# Altium footprint library 野火_F103霸道_PCB封装_V2_0.PcbLib: 62 footprints (part 3 of 4)
Each footprint in its own frame and in the unit in brackets; x right, y up, seen from the top. Pads: shape width x height; smd on the part's side, far side on the other; paste and mask are expansions set on the pad; w line width, h text height; cw(c..) or ccw(c..) is an arc to the next point about the centre after c.
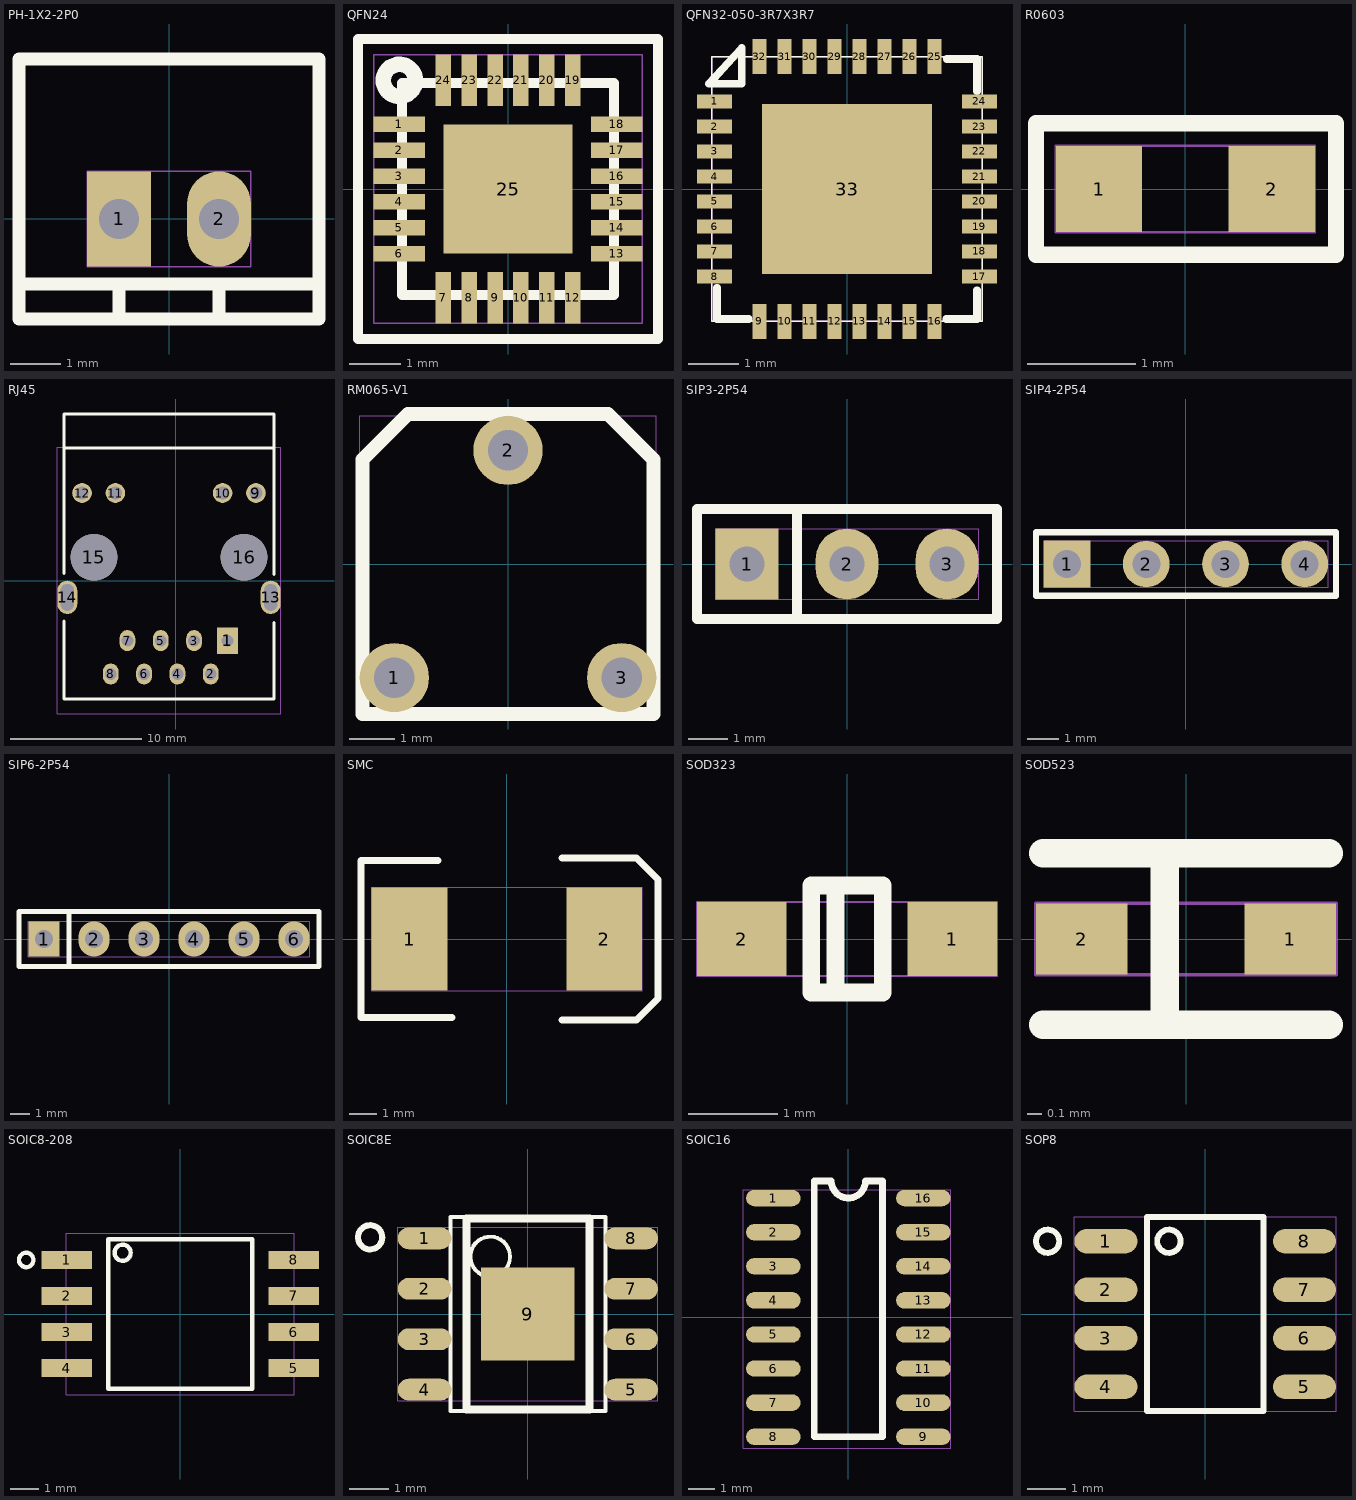
[diagram p2: the footprints below, top view; thin cyan lines are the x and y axes]

## PH-1X2-2P0 [mil]
pads (2):
  rect 50x75 hole 31.5 mask+2.5: 1(-39.37,0)
  oval 50x75 hole 31.5 mask+2.5: 2(39.37,0)
Top Overlay:
  lines w10: -118.11,-51.18 118.11,-51.18 ; -39.37,-78.74 -39.37,-51.18 ; 39.37,-78.74 39.37,-51.18 ; -118.11,-78.74 118.11,-78.74 118.11,125.98 -118.11,125.98 -118.11,-78.74
Top Assembly:
  text "J22" at 57.25,25 h50
Mechanical 20:
  lines w1: -64.37,-37.5 64.37,-37.5 64.37,37.5 -64.37,37.5 -64.37,-37.5

## QFN24 [mm]
pads (25):
  rect 1x0.3 smd mask+0.05: 1(-2.1,1.25) 2(-2.1,0.75) 3(-2.1,0.25) 4(-2.1,-0.25) 5(-2.1,-0.75) 6(-2.1,-1.25) 13(2.1,-1.25) 14(2.1,-0.75) 15(2.1,-0.25) 16(2.1,0.25) 17(2.1,0.75) 18(2.1,1.25)
  rect 0.3x1 smd mask+0.05: 7(-1.25,-2.1) 8(-0.75,-2.1) 9(-0.25,-2.1) 10(0.25,-2.1) 11(0.75,-2.1) 12(1.25,-2.1) 19(1.25,2.1) 20(0.75,2.1) 21(0.25,2.1) 22(-0.25,2.1) 23(-0.75,2.1) 24(-1.25,2.1)
  rect 2.5x2.5 smd mask+0.05: 25(0,0)
Top Overlay:
  circle w0.3: c-2.1,2.1 r0.31
  lines w0.2: -2.9,-2.9 2.9,-2.9 2.9,2.9 -2.9,2.9 -2.9,-2.9 ; -2.05,-2.05 2.05,-2.05 2.05,2.05 -2.05,2.05 -2.05,-2.05
Top Assembly:
  text "U4" at -1.052,-0.635 h1.27
Mechanical 20:
  lines w0.025: -2.6,-2.6 2.6,-2.6 2.6,2.6 -2.6,2.6 -2.6,-2.6

## QFN32-050-3R7X3R7 [mm]
pads (33):
  rect 0.7x0.28 smd mask+0.05: 1(-2.65,1.75) 2(-2.65,1.25) 3(-2.65,0.75) 4(-2.65,0.25) 5(-2.65,-0.25) 6(-2.65,-0.75) 7(-2.65,-1.25) 8(-2.65,-1.75) 17(2.65,-1.75) 18(2.65,-1.25) 19(2.65,-0.75) 20(2.65,-0.25) 21(2.65,0.25) 22(2.65,0.75) 23(2.65,1.25) 24(2.65,1.75)
  rect 0.28x0.7 smd mask+0.05: 9(-1.75,-2.65) 10(-1.25,-2.65) 11(-0.75,-2.65) 12(-0.25,-2.65) 13(0.25,-2.65) 14(0.75,-2.65) 15(1.25,-2.65) 16(1.75,-2.65) 25(1.75,2.65) 26(1.25,2.65) 27(0.75,2.65) 28(0.25,2.65) 29(-0.25,2.65) 30(-0.75,2.65) 31(-1.25,2.65) 32(-1.75,2.65)
  rect 3.4x3.4 smd mask+0.05: 33(0,0)
Top Overlay:
  lines w0.025: -2.7,-2.64 -2.7,2.64 2.7,2.64 2.7,-2.64 -2.7,-2.64
  lines w0.152: -2.6,-1.972 -2.6,-2.6 -1.965,-2.6 ; 1.988,-2.6 2.6,-2.6 2.6,-2.026 ; 1.998,2.6 2.6,2.6 2.6,1.959 ; -2.761,2.107 -2.105,2.82 -2.105,2.107 -2.761,2.107
Top Assembly:
  text "U20" at 1.587,0.635 h1.27
Mechanical 20:
  lines w0.025: -2.7,-2.64 -2.7,2.64 2.7,2.64 2.7,-2.64 -2.7,-2.64

## R0603 [mil]
pads (2):
  rect 31.5x31.5 smd mask+1.97: 1(-31.5,0) 2(31.5,0)
Top Overlay:
  lines w6: -54.5,-24 55,-24 55,24 -54.5,24 -54.5,-24
Top Assembly:
  text "R8" at 38.93,25 h50
Mechanical 20:
  lines w1: -47.24,-15.75 47.24,-15.75 47.24,15.75 -47.24,15.75 -47.24,-15.75

## RJ45 [mil]
pads (16):
  rect 62.99x78.74 / inner oval 62.99x78.74 / far side rect 62.99x78.74 hole 35.43 mask+1.97: 1(155.2,-180)
  oval 47.24x62.99 hole 35.43 mask+1.97: 2(105.2,-280) 3(55.2,-180) 4(5.2,-280) 5(-44.8,-180) 6(-94.8,-280) 7(-144.8,-180) 8(-194.8,-280)
  round 59.06 hole 40.16 mask+2.5: 9(240.83,262.91) 10(140.83,262.91) 11(-180.83,262.91) 12(-280.83,262.91)
  oval 60x100 hole 40 slot 80 at 90 deg mask+2.5: 13(285.12,-50.08) 14(-325.12,-50.08)
  round 140 hole 140 unplated mask+2.5: 15(-245,70) 16(205,70)
Top Overlay:
  lines w7.87: -334.96,397.76 294.96,397.76
  lines w10: -334.96,-120.83 -334.96,-355 294.96,-355 294.96,-125.98 ; -334.96,22.64 -334.96,499.92 294.96,499.92 294.96,18.94
Top Assembly:
  text "J54" at -58.44,-25 h50
Mechanical 20:
  lines w1: -355.12,-400 -355.12,400 315.12,400 315.12,-400 -355.12,-400

## RM065-V1 [mil]
pads (3):
  round 60 hole 35 mask+2.5: 1(-98.43,-98.43) 2(0,98.43) 3(98.43,-98.43)
Top Overlay:
  lines w12: -125.98,-129.92 125.98,-129.92 125.98,90.55 86.61,129.92 -86.61,129.92 -125.98,90.55 -125.98,-129.92
Top Assembly:
  text "RA1" at -53.09,-25 h50
Mechanical 20:
  lines w1: -128.43,-128.43 128.43,-128.43 128.43,128.43 -128.43,128.43 -128.43,-128.43

## SIP3-2P54 [mil]
pads (3):
  rect 62.99x70.87 hole 35.43 mask+1.97: 1(-100,0)
  oval 62.99x70.87 hole 35.43 mask+1.97: 2(0,0) 3(100,0)
Top Overlay:
  lines w10: -50,-55.12 -50,55.12 ; -150,-55.12 -150,55.12 150,55.12 150,-55.12 -150,-55.12
Top Assembly:
  text "J6" at -33.81,-25 h50
Mechanical 20:
  lines w1: -131.5,-35.43 131.5,-35.43 131.5,35.43 -131.5,35.43 -131.5,-35.43

## SIP4-2P54 [mil]
pads (4):
  rect 59.06x59.06 / inner round 59.06 / far side rect 59.06x59.06 hole 35.43 mask+1.97: 1(-150,0)
  round 59.06 hole 35.43 mask+1.97: 2(-50,0) 3(50,0) 4(150,0)
Top Overlay:
  lines w7.87: -189.37,-40 189.57,-40 189.57,40 -189.37,40 -189.37,-40
Top Assembly:
  text "J83" at -57.25,-25 h50
Mechanical 20:
  lines w1: -179.53,-29.53 179.53,-29.53 179.53,29.53 -179.53,29.53 -179.53,-29.53

## SIP6-2P54 [mil]
pads (6):
  rect 62.99x70.87 hole 35.43 mask+1.97: 1(-250,0)
  oval 62.99x70.87 hole 35.43 mask+1.97: 2(-150,0) 3(-50,0) 4(50,0) 5(150,0) 6(250,0)
Top Overlay:
  lines w10: -200,-55.12 -200,55.12 ; -300,-55.12 -300,55.12 300,55.12 300,-55.12 -300,-55.12
Top Assembly:
  text "J82" at 57.25,25 h50
Mechanical 20:
  lines w1: -281.5,-35.43 -281.5,35.43 281.5,35.43 281.5,-35.43 -281.5,-35.43

## SMC [mil]
pads (2):
  rect 110.24x150 smd mask+1.97: 1(-141.73,0) 2(141.73,0)
Top Overlay:
  lines w10: -100,114.17 -212.6,114.17 -212.6,-114.17 -80,-114.17 ; 80,-118.11 188.5,-118.11 220,-86.61 220,86.61 188.5,118.11 80,118.11
Top Assembly:
  text "D42" at -61.18,-25 h50
Mechanical 20:
  lines w1: -196.85,-75 196.85,-75 196.85,75 -196.85,75 -196.85,-75

## SOD323 [mm]
pads (2):
  rect 1x0.83 smd mask+0.05: 1(1.18,0) 2(-1.18,0)
Top Overlay:
  lines w0.2: -0.13,-0.6 -0.13,0.6 ; -0.4,-0.6 0.4,-0.6 0.4,0.6 -0.4,0.6 -0.4,-0.6
Top Assembly:
  text "Z9" at -0.958,-0.635 h1.27
Mechanical 20:
  lines w0.025: -1.68,-0.415 1.68,-0.415 1.68,0.415 -1.68,0.415 -1.68,-0.415

## SOD523 [mm]
pads (2):
  rect 0.64x0.5 smd mask+0.05: 1(0.73,0) 2(-0.73,0)
Top Overlay:
  lines w0.2: -1,-0.6 1,-0.6 ; -1,0.6 1,0.6 ; -0.15,-0.575 -0.15,0.6
Top Assembly:
  text "D44" at -1.584,-0.635 h1.27
Mechanical 20:
  lines w0.025: -1.05,-0.25 1.05,-0.25 1.05,0.25 -1.05,0.25 -1.05,-0.25

## SOIC8-208 [mil]
pads (8):
  rect 70x25 smd mask+2: 1(-157.48,75) 2(-157.48,25) 3(-157.48,-25) 4(-157.48,-75) 5(157.48,-75) 6(157.48,-25) 7(157.48,25) 8(157.48,75)
Top Overlay:
  circle w6: c-213.78,75 r10
  circle w6: c-80,85 r11.18
  lines w6: -100,-103.94 -100,103.94 ; -100,-103.94 100,-103.94 ; -100,-103.94 -100,103.94 ; -100,-103.94 100,-103.94 ; -100,103.94 100,103.94 ; -100,103.94 100,103.94 ; 100,-103.94 100,103.94 ; 100,-103.94 100,103.94
Top Assembly:
  text "U24" at -63.68,-25 h50
Mechanical 20:
  lines w1: -158.2,-112 158.2,-112 158.2,112 -158.2,112 -158.2,-112

## SOIC8E [mm]
pads (9):
  oval 1.35x0.55 smd mask+0.05: 1(-2.6,1.905) 2(-2.6,0.635) 3(-2.6,-0.635) 4(-2.6,-1.905) 5(2.6,-1.905) 6(2.6,-0.635) 7(2.6,0.635) 8(2.6,1.905)
  rect 2.35x2.35 smd mask+0.05: 9(0,0)
Top Overlay:
  circle w0.152: c-3.972,1.93 r0.305
  circle w0.1: c-0.95,1.445 r0.5
  lines w0.1: -1.95,-2.445 -1.95,2.445 1.95,2.445 1.95,-2.445 -1.95,-2.445
  lines w0.2: -1.55,-2.4 -1.55,2.4 1.55,2.4 1.55,-2.4 -1.55,-2.4
Top Assembly:
  text "U13" at 1.488,0.635 h1.27
Mechanical 20:
  lines w0.025: -3.275,-2.18 3.275,-2.18 3.275,2.18 -3.275,2.18 -3.275,-2.18

## SOIC16 [mil]
pads (16):
  oval 80x24 smd mask+2.5: 1(-110,175) 2(-110,125) 3(-110,75) 4(-110,25) 5(-110,-25) 6(-110,-75) 7(-110,-125) 8(-110,-175) 9(110,-175) 10(110,-125) 11(110,-75) 12(110,-25) 13(110,25) 14(110,75) 15(110,125) 16(110,175)
Top Overlay:
  lines w10: -50,-175 50,-175 50,200 25,200 cw(c0,200) -25,200 -50,200 -50,-175
Top Assembly:
  text "U6" at -39.04,-25 h50
Mechanical 20:
  lines w1: -154,-192 150,-192 150,187 -154,187 -154,-192

## SOP8 [mil]
pads (8):
  oval 65x25 smd mask+1.97: 1(-102.36,75) 2(-102.36,25) 3(-102.36,-25) 4(-102.36,-75) 5(102.36,-75) 6(102.36,-25) 7(102.36,25) 8(102.36,75)
Top Overlay:
  circle w6: c-37.36,75 r12
  circle w6: c-162.36,75 r12
  lines w6: -60,-100 60,-100 60,100 -60,100 -60,-100
Top Assembly:
  text "U8" at -40.23,-25 h50
Mechanical 20:
  lines w1: -134.86,-100 -134.86,100 134.86,100 134.86,-100 -134.86,-100